# EAGLE library part AE-FT2232D (library mita-akiba)
FTDI USB to 2x8-bit parallel adapter IC
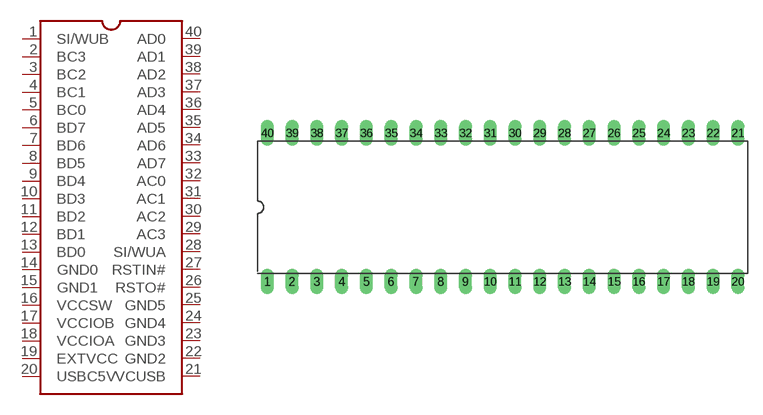
[diagram p51: symbol with the pads of DIL40-6; footprint DIL40-6]

Designator prefix -

## AE-FT2232D  [DIL40-6]
1  SI/WUB
2  BC3
3  BC2
4  BC1
5  BC0
6  BD7
7  BD6
8  BD5
9  BD4
10  BD3
11  BD2
12  BD1
13  BD0
14  GND0
15  GND1
16  VCCSW
17  VCCIOB
18  VCCIOA
19  EXTVCC
20  USBC5V
21  VCUSB
22  GND2
23  GND3
24  GND4
25  GND5
26  RSTO#
27  RSTIN#
28  SI/WUA
29  AC3
30  AC2
31  AC1
32  AC0
33  AD7
34  AD6
35  AD5
36  AD4
37  AD3
38  AD2
39  AD1
40  AD0

## Footprint DIL40-6 (pad centres in mm)
Dual In Line Package 40pin w=0.6 inch
drill 0.813 long: 1 -24.13,-7.62; 2 -21.59,-7.62; 3 -19.05,-7.62; 4 -16.51,-7.62; 5 -13.97,-7.62; 6 -11.43,-7.62; 7 -8.89,-7.62; 8 -6.35,-7.62; 9 -3.81,-7.62; 10 -1.27,-7.62; 11 1.27,-7.62; 12 3.81,-7.62; 13 6.35,-7.62; 14 8.89,-7.62; 15 11.43,-7.62; 16 13.97,-7.62; 17 16.51,-7.62; 18 19.05,-7.62; 19 21.59,-7.62; 20 24.13,-7.62; 21 24.13,7.62; 22 21.59,7.62; 23 19.05,7.62; 24 16.51,7.62; 25 13.97,7.62; 26 11.43,7.62; 27 8.89,7.62; 28 6.35,7.62; 29 3.81,7.62; 30 1.27,7.62; 31 -1.27,7.62; 32 -3.81,7.62; 33 -6.35,7.62; 34 -8.89,7.62; 35 -11.43,7.62; 36 -13.97,7.62; 37 -16.51,7.62; 38 -19.05,7.62; 39 -21.59,7.62; 40 -24.13,7.62